# Altium integrated library SS310.IntLib: 1 symbol
Pins are listed as number, name and electrical type; pins without a type are passive.

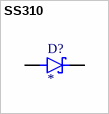
[diagram p0: symbol SS310]

## SS310
designator D?
3A, 100V, Schottky Rectifier; MF: Taiwan Semiconductor; MP: SS310; SnapEDA_Link: https://www.snapeda.com/parts/SS310/taiwan/view-part/?ref=snap; Package: DO-214AB-2 Taiwan Semiconductor; Value: *; Check_prices: https://www.snapeda.com/parts/SS310/taiwan/view-part/?ref=eda
footprint DIO_SS310
pins: A, C K